# EAGLE library part 2X4_HEADER (library CONNECTORs)
A 2 row, 4 column, 8 pin 0.1" header.
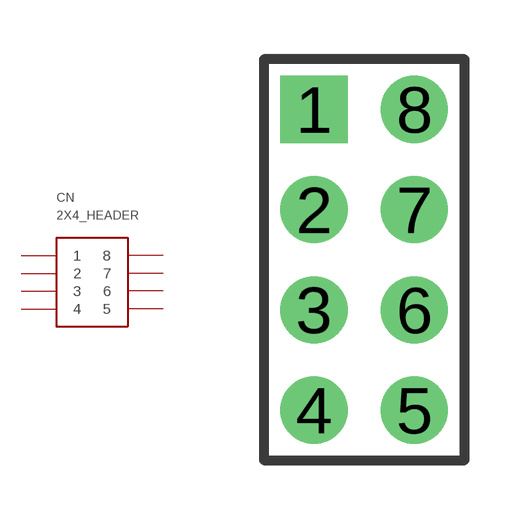
[diagram p10: symbol with the pads of 4X2_HEADER; footprint 4X2_HEADER]

Designator prefix CN

## 2X4_HEADER  [4X2_HEADER]
1  1
2  2
3  3
4  4
5  5
6  6
7  7
8  8

## Footprint 4X2_HEADER (pad centres in mm)
drill 1 pad 1.7 square: 1 -1.27,3.81
drill 1 pad 1.7: 2 -1.27,1.27; 3 -1.27,-1.27; 4 -1.27,-3.81; 5 1.27,-3.81; 6 1.27,-1.27; 7 1.27,1.27; 8 1.27,3.81